# Altium schematic symbol library Z 自恢复保险丝.SCHLIB: 2 symbols
Pins are listed as number, name and electrical type; pins without a type are passive.

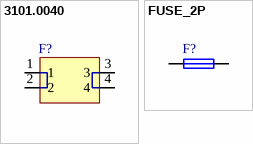
[diagram p0: symbols 3101.0040 to FUSE_2P]

## 3101.0040
designator F?
pins: 1, 2, 3, 4

## FUSE_2P
designator F?
pins: 1, 2